# EAGLE library part K574UD2 (library _motovilo)
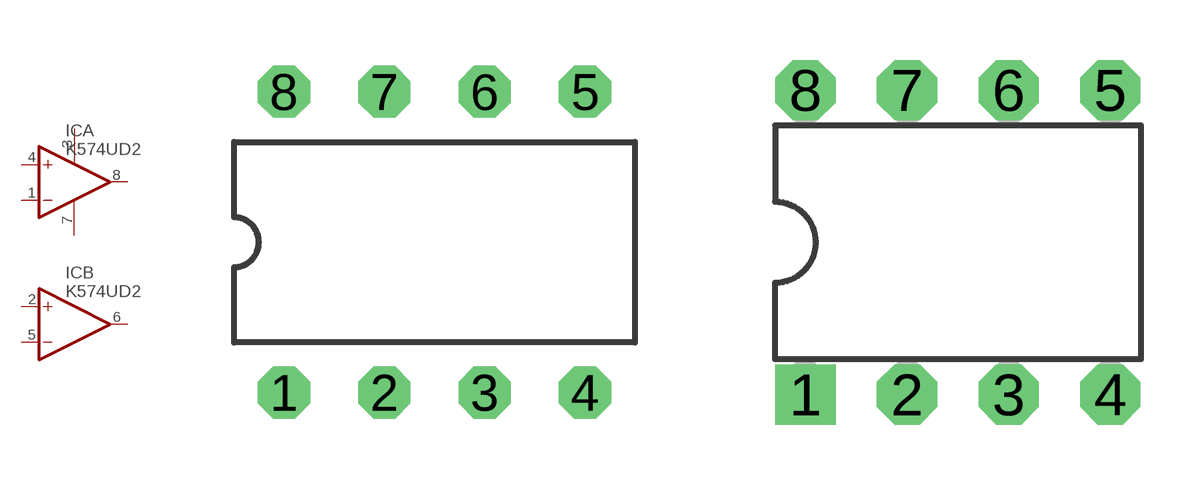
[diagram p26: symbol with the pads of DIL08; footprints DIL08, DIL08_IMPLANT]

Designator prefix IC; gates A=OPAMP B=OPAMP P=PWR+-

## K574UD2R  [DIL08]
1  A:-IN  in
2  B:+IN  in
3  P:V+  pwr
4  A:+IN  in
5  B:-IN  in
6  B:OUT  out
7  P:V-  pwr
8  A:OUT  out

## K574UD2-IMPLANT  [DIL08_IMPLANT]
1  A:-IN  in
2  A:+IN  in
3  P:V+  pwr
4  B:+IN  in
5  B:-IN  in
6  B:OUT  out
7  P:V-  pwr
8  A:OUT  out

## Footprint DIL08 (pad centres in mm)
Dual In Line package type P
drill 0.813 octagon: 1 -3.81,-3.81; 2 -1.27,-3.81; 3 1.27,-3.81; 4 3.81,-3.81; 5 3.81,3.81; 6 1.27,3.81; 7 -1.27,3.81; 8 -3.81,3.81

## Footprint DIL08_IMPLANT (pad centres in mm)
drill 1 square: 1 -3.81,-3.81
drill 1 octagon: 2 -1.27,-3.81; 3 1.27,-3.81; 4 3.81,-3.81; 5 3.81,3.81; 6 1.27,3.81; 7 -1.27,3.81; 8 -3.81,3.81